# EAGLE library part AD8351ARMZ (library RF Amplifier)
IC RF AMP GP 0HZ-2.2GHZ 10MSOP Manufacturer's datasheet <https://www.analog.com/media/en/technical-documentation/data-sheets/AD8351.pdf>
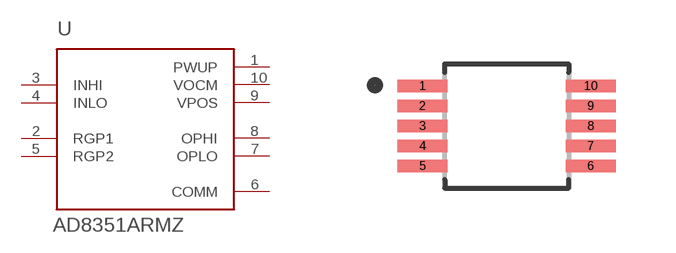
[diagram p5: symbol with the pads of AD8351ARMZ; footprint AD8351ARMZ]

Designator prefix U

## AD8351ARMZ (CREATED_BY: PCBLayout.com; DIGIKEY_PARTNO: AD8351ARMZ-ND; MANUFACTURER: Analog Devices Inc.; MPN: AD8351ARMZ; PACKAGE: MSOP-10)  [AD8351ARMZ]
1  PWUP  pwr
2  RGP1  in
3  INHI  in
4  INLO  in
5  RGP2  in
6  COMM  pas
7  OPLO  out
8  OPHI  out
9  VPOS  pwr
10  VOCM  pwr

## Footprint AD8351ARMZ (pad centres in mm)
Small Outline Pkg (SOP), 0.50 mm pitch; 10 pin, 3.00 mm L X 3.00 mm W X 1.10 mm H body PCB Libraries Packages
smd 1.25 x 0.32: 1 -2.105,1; 2 -2.105,0.5; 3 -2.105,0; 4 -2.105,-0.5; 5 -2.105,-1; 6 2.105,-1; 7 2.105,-0.5; 8 2.105,0; 9 2.105,0.5; 10 2.105,1